# Altium schematic symbol library Buttons & Switches.SchLib: 17 symbols
Pins are listed as number, name and electrical type; pins without a type are passive.

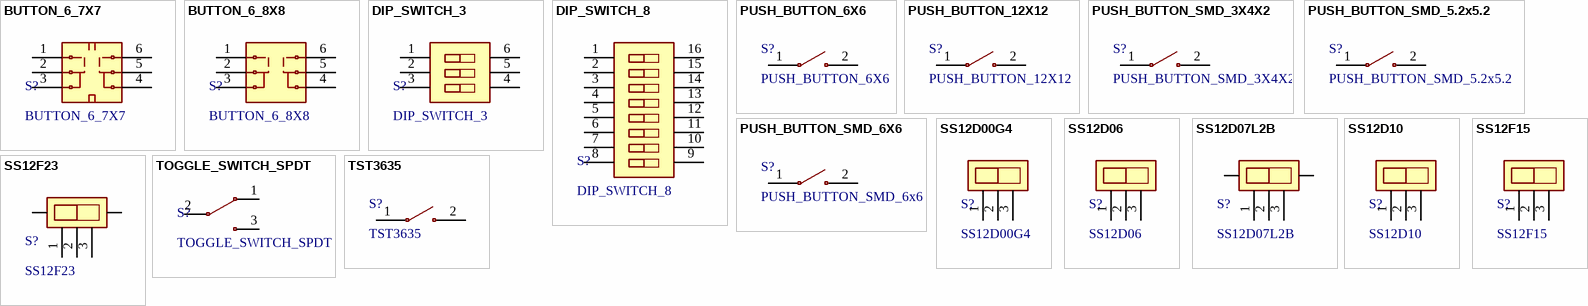
[diagram p0: symbols BUTTON_6_7X7 to TST3635]

## BUTTON_6_7X7
designator S?
Button Latch 6 Pins 7x7mm.; JLCPCB PN: C318863
footprint BUTTON_6_7X7
pins: 1, 2, 3, 4, 5, 6

## BUTTON_6_8X8
designator S?
Button Latch 6 Pins 8x8mm.; JLCPCB PN: C318860
footprint BUTTON_6_8x8
pins: 1, 2, 3, 4, 5, 6

## DIP_SWITCH_3
designator S?
Dip Switch 3 Vias, PTH or SMD.; JLCPCB PN SMD: C2842910; JLCPCB PN PTH: C190371
footprint DIP_SWITCH_3
footprint DIP_SWITCH_3_SMD
pins: 1, 2, 3, 4, 5, 6

## DIP_SWITCH_8
designator S?
Dip Switch 3 Vias PTH.
footprint DIP_SWITCH_8
pins: 1, 2, 3, 4, 5, 6, 7, 8, 9, 10, 11, 12, 13, 14, 15, 16

## PUSH_BUTTON_6X6
designator S?
Push Button Tactile Switch PTH 4 Pins 6x6mm.; JLCPCB PN: C255811
footprint PUSH_BUTTON_6X6
pins: 1, 2

## PUSH_BUTTON_12X12
designator S?
Push Button Tactile Switch PTH 4 Pins 12x12mm.; Mouser PN: 992-BUTT-12-5; JLCPCB PN: C84931
footprint PUSH_BUTTON_12X12_BLUE
footprint PUSH_BUTTON_12X12_GREEN
footprint PUSH_BUTTON_12X12_RED
footprint PUSH_BUTTON_12X12_YELLOW
footprint PUSH_BUTTON_12X12_WHITE
pins: 1, 2

## PUSH_BUTTON_SMD_3X4X2
designator S?
Push Button Tactile Switch SMD 2 Pins 3x4x2mm.; JLCPCB PN: C231644
footprint PUSH_BUTTON_SMD_3X4X2
pins: 1, 2

## PUSH_BUTTON_SMD_5.2x5.2
designator S?
Push Button Tactile Switch SMD 4 Pins 5.2x5.2mm.; JLCPCB PN: C108649
footprint PUSH_BUTTON_SMD_5.2x5.2
pins: 1, 2

## PUSH_BUTTON_SMD_6X6
designator S?, comment PUSH_BUTTON_SMD_6x6
Push Button Tactile Switch SMD 4 Pins 6x6mm.; JLCPCB PN: C231324
footprint PUSH_BUTTON_SMD_6x6
pins: 1, 2

## SS12D00G4
designator S?
Vertical Slide Switch 3 Pins.
footprint SS12D00G4
pins: 1, 2, 3

## SS12D06
designator S?
Lying Slide Switch 3 Pins.
footprint SS12D06
pins: 1, 2, 3

## SS12D07L2B
designator S?
Vertical Slide Switch 5 Pins 8.7x4.5x4.7mm.; JLCPCB PN: C480342
footprint SS12D07L2B
pins: 1, 2, 3

## SS12D10
designator S?
Vertical Slide Switch 3 Pins 6.7x12.7x6.4mm.; JLCPCB PN: C2887259
footprint SS12D10
pins: 1, 2, 3

## SS12F15
designator S?
Vertical Slide Switch 3 Pins 6x19.5x5mm.; JLCPCB PN: C2887260; ComponentLink1Description: Datasheet; ComponentLink1URL: https://dalincom.ru/datasheet/SS-12F15.pdf
footprint SS12F15
pins: 1, 2, 3

## SS12F23
designator S?
Lying Slide Switch 5 Pins 6.8x13x5.7mm.; JLCPCB PN: C2887262
footprint SS12F23
pins: 1, 2, 3

## TOGGLE_SWITCH_SPDT
designator S?
Toggle Switch SPDT, 125V AC, 6A, 33x13x7mm.; JLCPCB PN: C2921493
footprint TOGGLE_SWITCH_SPDT
pins: 1, 2, 3

## TST3635
designator S?
Push Button Tactile Switch SMD Side 2 Pins.; JLCPCB PN: C319380
footprint TST3635
pins: 1, 2